# Altium integrated library Altium_WE-LHMI_rev25a.IntLib: 193 symbols (part 1 of 4)
Pins are listed as number, name and electrical type; pins without a type are passive.

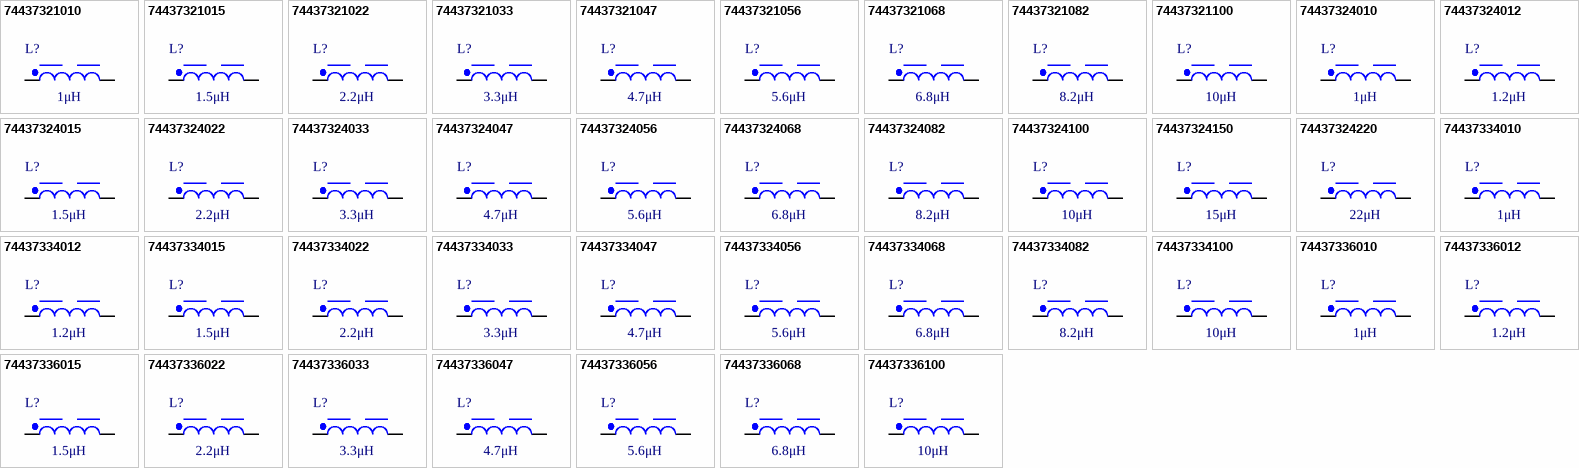
[diagram p0: symbols 74437321010 to 74437336100]

## 74437321010
designator L?, comment 1μH
WE-LHMI SMT Power Inductor, size 4012, 1μH, 4.5A, 47mΩ; Manufacturer Part Number: 74437321010; Manufacturer: Wurth Elektronik; Case/Size Code: 4012; Saturation Current @ 10%: 5.65A; Saturation Current @ 30%: 10A; Self Resonant Frequency: 90MHz; Category: Power Inductors; Match Code: WE-LHMI; ComponentLink1Description: Website Link; ComponentLink1URL: https://www.we-online.com/redexpert/article/74437321010?ad; ComponentLink2Description: Datasheet Link; ComponentLink2URL: https://www.we-online.com/redexpert/spec/74437321010?ad; Mount: Surface Mount; Min Operating Temperature: -40°C; Max Operating Temperature: 125°C; Packaging: Tape and Reel; Length: 4.45mm; Width: 4.06mm; Height: 1mm; DC Resistance Max: 47mΩ; Inductance: 1μH; Performance Rated Current: 4.5A
footprint WE-LHMI_4012
simulation model 4012_74437321010_1u
pins: 1, 2

## 74437321015
designator L?, comment 1.5μH
WE-LHMI SMT Power Inductor, size 4012, 1.5μH, 3.9A, 63.3mΩ; Manufacturer Part Number: 74437321015; Manufacturer: Wurth Elektronik; Case/Size Code: 4012; Saturation Current @ 10%: 2.7A; Saturation Current @ 30%: 5.1A; Self Resonant Frequency: 60MHz; Category: Power Inductors; Match Code: WE-LHMI; ComponentLink1Description: Website Link; ComponentLink1URL: https://www.we-online.com/redexpert/article/74437321015?ad; ComponentLink2Description: Datasheet Link; ComponentLink2URL: https://www.we-online.com/redexpert/spec/74437321015?ad; Mount: Surface Mount; Min Operating Temperature: -40°C; Max Operating Temperature: 125°C; Packaging: Tape and Reel; Length: 4.45mm; Width: 4.06mm; Height: 1mm; DC Resistance Max: 63.3mΩ; Inductance: 1.5μH; Performance Rated Current: 3.9A
footprint WE-LHMI_4012
simulation model 4012_74437321015_1.5u
pins: 1, 2

## 74437321022
designator L?, comment 2.2μH
WE-LHMI SMT Power Inductor, size 4012, 2.2μH, 3.5A, 80mΩ; Manufacturer Part Number: 74437321022; Manufacturer: Wurth Elektronik; Case/Size Code: 4012; Saturation Current @ 10%: 3.2A; Saturation Current @ 30%: 6.2A; Self Resonant Frequency: 55MHz; Category: Power Inductors; Match Code: WE-LHMI; ComponentLink1Description: Website Link; ComponentLink1URL: https://www.we-online.com/redexpert/article/74437321022?ad; ComponentLink2Description: Datasheet Link; ComponentLink2URL: https://www.we-online.com/redexpert/spec/74437321022?ad; Mount: Surface Mount; Min Operating Temperature: -40°C; Max Operating Temperature: 125°C; Packaging: Tape and Reel; Length: 4.45mm; Width: 4.06mm; Height: 1mm; DC Resistance Max: 80mΩ; Inductance: 2.2μH; Performance Rated Current: 3.5A
footprint WE-LHMI_4012
simulation model 4012_74437321022_2.2u
pins: 1, 2

## 74437321033
designator L?, comment 3.3μH
WE-LHMI SMT Power Inductor, size 4012, 3.3μH, 3.15A, 97mΩ; Manufacturer Part Number: 74437321033; Manufacturer: Wurth Elektronik; Case/Size Code: 4012; Saturation Current @ 10%: 2.6A; Saturation Current @ 30%: 4.8A; Self Resonant Frequency: 40MHz; Category: Power Inductors; Match Code: WE-LHMI; ComponentLink1Description: Website Link; ComponentLink1URL: https://www.we-online.com/redexpert/article/74437321033?ad; ComponentLink2Description: Datasheet Link; ComponentLink2URL: https://www.we-online.com/redexpert/spec/74437321033?ad; Mount: Surface Mount; Min Operating Temperature: -40°C; Max Operating Temperature: 125°C; Packaging: Tape and Reel; Length: 4.45mm; Width: 4.06mm; Height: 1mm; DC Resistance Max: 97mΩ; Inductance: 3.3μH; Performance Rated Current: 3.15A
footprint WE-LHMI_4012
simulation model 4012_74437321033_3.3u
pins: 1, 2

## 74437321047
designator L?, comment 4.7μH
WE-LHMI SMT Power Inductor, size 4012, 4.7μH, 2.55A, 145mΩ; Manufacturer Part Number: 74437321047; Manufacturer: Wurth Elektronik; Case/Size Code: 4012; Saturation Current @ 10%: 2.1A; Saturation Current @ 30%: 4.1A; Self Resonant Frequency: 34MHz; Category: Power Inductors; Match Code: WE-LHMI; ComponentLink1Description: Website Link; ComponentLink1URL: https://www.we-online.com/redexpert/article/74437321047?ad; ComponentLink2Description: Datasheet Link; ComponentLink2URL: https://www.we-online.com/redexpert/spec/74437321047?ad; Mount: Surface Mount; Min Operating Temperature: -40°C; Max Operating Temperature: 125°C; Packaging: Tape and Reel; Length: 4.45mm; Width: 4.06mm; Height: 1mm; DC Resistance Max: 145mΩ; Inductance: 4.7μH; Performance Rated Current: 2.55A
footprint WE-LHMI_4012
simulation model 4012_74437321047_4.7u
pins: 1, 2

## 74437321056
designator L?, comment 5.6μH
WE-LHMI SMT Power Inductor, size 4012, 5.6μH, 2.15A, 208mΩ; Manufacturer Part Number: 74437321056; Manufacturer: Wurth Elektronik; Case/Size Code: 4012; Saturation Current @ 10%: 1.95A; Saturation Current @ 30%: 3.65A; Self Resonant Frequency: 28MHz; Category: Power Inductors; Match Code: WE-LHMI; ComponentLink1Description: Website Link; ComponentLink1URL: https://www.we-online.com/redexpert/article/74437321056?ad; ComponentLink2Description: Datasheet Link; ComponentLink2URL: https://www.we-online.com/redexpert/spec/74437321056?ad; Mount: Surface Mount; Min Operating Temperature: -40°C; Max Operating Temperature: 125°C; Packaging: Tape and Reel; Length: 4.45mm; Width: 4.06mm; Height: 1mm; DC Resistance Max: 208mΩ; Inductance: 5.6μH; Performance Rated Current: 2.15A
footprint WE-LHMI_4012
simulation model 4012_74437321056_5.6u
pins: 1, 2

## 74437321068
designator L?, comment 6.8μH
WE-LHMI SMT Power Inductor, size 4012, 6.8μH, 1.65A, 360mΩ; Manufacturer Part Number: 74437321068; Manufacturer: Wurth Elektronik; Case/Size Code: 4012; Saturation Current @ 30%: 3.05A; Self Resonant Frequency: 25MHz; Category: Power Inductors; Match Code: WE-LHMI; ComponentLink1Description: Website Link; ComponentLink1URL: https://www.we-online.com/redexpert/article/74437321068?ad; ComponentLink2Description: Datasheet Link; ComponentLink2URL: https://www.we-online.com/redexpert/spec/74437321068?ad; Mount: Surface Mount; Min Operating Temperature: -40°C; Max Operating Temperature: 125°C; Packaging: Tape and Reel; Length: 4.45mm; Width: 4.06mm; Height: 1mm; DC Resistance Max: 360mΩ; Inductance: 6.8μH; Performance Rated Current: 1.65A; Saturation Current @ 10%: 1.65A
footprint WE-LHMI_4012
simulation model 4012_74437321068_6.8u
pins: 1, 2

## 74437321082
designator L?, comment 8.2μH
WE-LHMI SMT Power Inductor, size 4012, 8.2μH, 1.6A, 376mΩ; Manufacturer Part Number: 74437321082; Manufacturer: Wurth Elektronik; Case/Size Code: 4012; Saturation Current @ 10%: 1.65A; Saturation Current @ 30%: 2.85A; Self Resonant Frequency: 24MHz; Category: Power Inductors; Match Code: WE-LHMI; ComponentLink1Description: Website Link; ComponentLink1URL: https://www.we-online.com/redexpert/article/74437321082?ad; ComponentLink2Description: Datasheet Link; ComponentLink2URL: https://www.we-online.com/redexpert/spec/74437321082?ad; Mount: Surface Mount; Min Operating Temperature: -40°C; Max Operating Temperature: 125°C; Packaging: Tape and Reel; Length: 4.45mm; Width: 4.06mm; Height: 1mm; DC Resistance Max: 376mΩ; Inductance: 8.2μH; Performance Rated Current: 1.6A
footprint WE-LHMI_4012
simulation model 4012_74437321082_8.2u
pins: 1, 2

## 74437321100
designator L?, comment 10μH
WE-LHMI SMT Power Inductor, size 4012, 10μH, 1.4A, 463mΩ; Manufacturer Part Number: 74437321100; Manufacturer: Wurth Elektronik; Case/Size Code: 4012; Saturation Current @ 10%: 1.5A; Saturation Current @ 30%: 2.65A; Self Resonant Frequency: 23MHz; Category: Power Inductors; Match Code: WE-LHMI; ComponentLink1Description: Website Link; ComponentLink1URL: https://www.we-online.com/redexpert/article/74437321100?ad; ComponentLink2Description: Datasheet Link; ComponentLink2URL: https://www.we-online.com/redexpert/spec/74437321100?ad; Mount: Surface Mount; Min Operating Temperature: -40°C; Max Operating Temperature: 125°C; Packaging: Tape and Reel; Length: 4.45mm; Width: 4.06mm; Height: 1mm; DC Resistance Max: 463mΩ; Inductance: 10μH; Performance Rated Current: 1.4A
footprint WE-LHMI_4012
simulation model 4012_74437321100_10u
pins: 1, 2

## 74437324010
designator L?, comment 1μH
WE-LHMI SMT Power Inductor, size 4020, 1μH, 6.2A, 27mΩ; Manufacturer Part Number: 74437324010; Manufacturer: Wurth Elektronik; Case/Size Code: 4020; Saturation Current @ 10%: 6.5A; Saturation Current @ 30%: 12.5A; Self Resonant Frequency: 89MHz; Category: Power Inductors; Match Code: WE-LHMI; ComponentLink1Description: Website Link; ComponentLink1URL: https://www.we-online.com/redexpert/article/74437324010?ad; ComponentLink2Description: Datasheet Link; ComponentLink2URL: https://www.we-online.com/redexpert/spec/74437324010?ad; Mount: Surface Mount; Min Operating Temperature: -40°C; Max Operating Temperature: 125°C; Packaging: Tape and Reel; Length: 4.45mm; Width: 4.06mm; Height: 1.8mm; DC Resistance Max: 27mΩ; Inductance: 1μH; Performance Rated Current: 6.2A
footprint WE-LHMI_4020
simulation model 4020_74437324010_1u
pins: 1, 2

## 74437324012
designator L?, comment 1.2μH
WE-LHMI SMT Power Inductor, size 4020, 1.2μH, 5.85A, 30mΩ; Manufacturer Part Number: 74437324012; Manufacturer: Wurth Elektronik; Case/Size Code: 4020; Saturation Current @ 10%: 6.3A; Saturation Current @ 30%: 11.6A; Self Resonant Frequency: 71MHz; Category: Power Inductors; Match Code: WE-LHMI; ComponentLink1Description: Website Link; ComponentLink1URL: https://www.we-online.com/redexpert/article/74437324012?ad; ComponentLink2Description: Datasheet Link; ComponentLink2URL: https://www.we-online.com/redexpert/spec/74437324012?ad; Mount: Surface Mount; Min Operating Temperature: -40°C; Max Operating Temperature: 125°C; Packaging: Tape and Reel; Length: 4.45mm; Width: 4.06mm; Height: 1.8mm; DC Resistance Max: 30mΩ; Inductance: 1.2μH; Performance Rated Current: 5.85A
footprint WE-LHMI_4020
simulation model 4020_74437324012_1.2u
pins: 1, 2

## 74437324015
designator L?, comment 1.5μH
WE-LHMI SMT Power Inductor, size 4020, 1.5μH, 4.9A, 42mΩ; Manufacturer Part Number: 74437324015; Manufacturer: Wurth Elektronik; Case/Size Code: 4020; Saturation Current @ 10%: 5.65A; Saturation Current @ 30%: 10.1A; Self Resonant Frequency: 64MHz; Category: Power Inductors; Match Code: WE-LHMI; ComponentLink1Description: Website Link; ComponentLink1URL: https://www.we-online.com/redexpert/article/74437324015?ad; ComponentLink2Description: Datasheet Link; ComponentLink2URL: https://www.we-online.com/redexpert/spec/74437324015?ad; Mount: Surface Mount; Min Operating Temperature: -40°C; Max Operating Temperature: 125°C; Packaging: Tape and Reel; Length: 4.45mm; Width: 4.06mm; Height: 1.8mm; DC Resistance Max: 42mΩ; Inductance: 1.5μH; Performance Rated Current: 4.9A
footprint WE-LHMI_4020
simulation model 4020_74437324015_1.5u
pins: 1, 2

## 74437324022
designator L?, comment 2.2μH
WE-LHMI SMT Power Inductor, size 4020, 2.2μH, 4.05A, 61mΩ; Manufacturer Part Number: 74437324022; Manufacturer: Wurth Elektronik; Case/Size Code: 4020; Saturation Current @ 10%: 4.45A; Saturation Current @ 30%: 8.4A; Self Resonant Frequency: 49MHz; Category: Power Inductors; Match Code: WE-LHMI; ComponentLink1Description: Website Link; ComponentLink1URL: https://www.we-online.com/redexpert/article/74437324022?ad; ComponentLink2Description: Datasheet Link; ComponentLink2URL: https://www.we-online.com/redexpert/spec/74437324022?ad; Mount: Surface Mount; Min Operating Temperature: -40°C; Max Operating Temperature: 125°C; Packaging: Tape and Reel; Length: 4.45mm; Width: 4.06mm; Height: 1.8mm; DC Resistance Max: 61mΩ; Inductance: 2.2μH; Performance Rated Current: 4.05A
footprint WE-LHMI_4020
simulation model 4020_74437324022_2.2u
pins: 1, 2

## 74437324033
designator L?, comment 3.3μH
WE-LHMI SMT Power Inductor, size 4020, 3.3μH, 3.5A, 76mΩ; Manufacturer Part Number: 74437324033; Manufacturer: Wurth Elektronik; Case/Size Code: 4020; Saturation Current @ 10%: 2.75A; Saturation Current @ 30%: 5.45A; Self Resonant Frequency: 40MHz; Category: Power Inductors; Match Code: WE-LHMI; ComponentLink1Description: Website Link; ComponentLink1URL: https://www.we-online.com/redexpert/article/74437324033?ad; ComponentLink2Description: Datasheet Link; ComponentLink2URL: https://www.we-online.com/redexpert/spec/74437324033?ad; Mount: Surface Mount; Min Operating Temperature: -40°C; Max Operating Temperature: 125°C; Packaging: Tape and Reel; Length: 4.45mm; Width: 4.06mm; Height: 1.8mm; DC Resistance Max: 76mΩ; Inductance: 3.3μH; Performance Rated Current: 3.5A
footprint WE-LHMI_4020
simulation model 4020_74437324033_3.3u
pins: 1, 2

## 74437324047
designator L?, comment 4.7μH
WE-LHMI SMT Power Inductor, size 4020, 4.7μH, 2.95A, 105mΩ; Manufacturer Part Number: 74437324047; Manufacturer: Wurth Elektronik; Case/Size Code: 4020; Saturation Current @ 10%: 2.45A; Saturation Current @ 30%: 5.4A; Self Resonant Frequency: 31MHz; Category: Power Inductors; Match Code: WE-LHMI; ComponentLink1Description: Website Link; ComponentLink1URL: https://www.we-online.com/redexpert/article/74437324047?ad; ComponentLink2Description: Datasheet Link; ComponentLink2URL: https://www.we-online.com/redexpert/spec/74437324047?ad; Mount: Surface Mount; Min Operating Temperature: -40°C; Max Operating Temperature: 125°C; Packaging: Tape and Reel; Length: 4.45mm; Width: 4.06mm; Height: 1.8mm; DC Resistance Max: 105mΩ; Inductance: 4.7μH; Performance Rated Current: 2.95A
footprint WE-LHMI_4020
simulation model 4020_74437324047_4.7u
pins: 1, 2

## 74437324056
designator L?, comment 5.6μH
WE-LHMI SMT Power Inductor, size 4020, 5.6μH, 2.6A, 125mΩ; Manufacturer Part Number: 74437324056; Manufacturer: Wurth Elektronik; Case/Size Code: 4020; Saturation Current @ 10%: 2.4A; Saturation Current @ 30%: 5.1A; Self Resonant Frequency: 30MHz; Category: Power Inductors; Match Code: WE-LHMI; ComponentLink1Description: Website Link; ComponentLink1URL: https://www.we-online.com/redexpert/article/74437324056?ad; ComponentLink2Description: Datasheet Link; ComponentLink2URL: https://www.we-online.com/redexpert/spec/74437324056?ad; Mount: Surface Mount; Min Operating Temperature: -40°C; Max Operating Temperature: 125°C; Packaging: Tape and Reel; Length: 4.45mm; Width: 4.06mm; Height: 1.8mm; DC Resistance Max: 125mΩ; Inductance: 5.6μH; Performance Rated Current: 2.6A
footprint WE-LHMI_4020
simulation model 4020_74437324056_5.6u
pins: 1, 2

## 74437324068
designator L?, comment 6.8μH
WE-LHMI SMT Power Inductor, size 4020, 6.8μH, 2.35A, 172mΩ; Manufacturer Part Number: 74437324068; Manufacturer: Wurth Elektronik; Case/Size Code: 4020; Saturation Current @ 10%: 2.4A; Saturation Current @ 30%: 4.75A; Self Resonant Frequency: 29MHz; Category: Power Inductors; Match Code: WE-LHMI; ComponentLink1Description: Website Link; ComponentLink1URL: https://www.we-online.com/redexpert/article/74437324068?ad; ComponentLink2Description: Datasheet Link; ComponentLink2URL: https://www.we-online.com/redexpert/spec/74437324068?ad; Mount: Surface Mount; Min Operating Temperature: -40°C; Max Operating Temperature: 125°C; Packaging: Tape and Reel; Length: 4.45mm; Width: 4.06mm; Height: 1.8mm; DC Resistance Max: 172mΩ; Inductance: 6.8μH; Performance Rated Current: 2.35A
footprint WE-LHMI_4020
simulation model 4020_74437324068_6.8u
pins: 1, 2

## 74437324082
designator L?, comment 8.2μH
WE-LHMI SMT Power Inductor, size 4020, 8.2μH, 2.3A, 180mΩ; Manufacturer Part Number: 74437324082; Manufacturer: Wurth Elektronik; Case/Size Code: 4020; Saturation Current @ 10%: 1.8A; Saturation Current @ 30%: 3.8A; Self Resonant Frequency: 22MHz; Category: Power Inductors; Match Code: WE-LHMI; ComponentLink1Description: Website Link; ComponentLink1URL: https://www.we-online.com/redexpert/article/74437324082?ad; ComponentLink2Description: Datasheet Link; ComponentLink2URL: https://www.we-online.com/redexpert/spec/74437324082?ad; Mount: Surface Mount; Min Operating Temperature: -40°C; Max Operating Temperature: 125°C; Packaging: Tape and Reel; Length: 4.45mm; Width: 4.06mm; Height: 1.8mm; DC Resistance Max: 180mΩ; Inductance: 8.2μH; Performance Rated Current: 2.3A
footprint WE-LHMI_4020
simulation model 4020_74437324082_8.2u
pins: 1, 2

## 74437324100
designator L?, comment 10μH
WE-LHMI SMT Power Inductor, size 4020, 10μH, 1.95A, 243mΩ; Manufacturer Part Number: 74437324100; Manufacturer: Wurth Elektronik; Case/Size Code: 4020; Saturation Current @ 10%: 1.5A; Saturation Current @ 30%: 3.15A; Self Resonant Frequency: 23MHz; Category: Power Inductors; Match Code: WE-LHMI; ComponentLink1Description: Website Link; ComponentLink1URL: https://www.we-online.com/redexpert/article/74437324100?ad; ComponentLink2Description: Datasheet Link; ComponentLink2URL: https://www.we-online.com/redexpert/spec/74437324100?ad; Mount: Surface Mount; Min Operating Temperature: -40°C; Max Operating Temperature: 125°C; Packaging: Tape and Reel; Length: 4.45mm; Width: 4.06mm; Height: 1.8mm; DC Resistance Max: 243mΩ; Inductance: 10μH; Performance Rated Current: 1.95A
footprint WE-LHMI_4020
simulation model 4020_74437324100_10u
pins: 1, 2

## 74437324150
designator L?, comment 15μH
WE-LHMI SMT Power Inductor, size 4020, 15μH, 1.6A, 374mΩ; Manufacturer Part Number: 74437324150; Manufacturer: Wurth Elektronik; Case/Size Code: 4020; Saturation Current @ 10%: 1.35A; Saturation Current @ 30%: 2.75A; Self Resonant Frequency: 17MHz; Category: Power Inductors; Match Code: WE-LHMI; ComponentLink1Description: Website Link; ComponentLink1URL: https://www.we-online.com/redexpert/article/74437324150?ad; ComponentLink2Description: Datasheet Link; ComponentLink2URL: https://www.we-online.com/redexpert/spec/74437324150?ad; Mount: Surface Mount; Min Operating Temperature: -40°C; Max Operating Temperature: 125°C; Packaging: Tape and Reel; Length: 4.45mm; Width: 4.06mm; Height: 1.8mm; DC Resistance Max: 374mΩ; Inductance: 15μH; Performance Rated Current: 1.6A
footprint WE-LHMI_4020
simulation model 4020_74437324150_15u
pins: 1, 2

## 74437324220
designator L?, comment 22μH
WE-LHMI SMT Power Inductor, size 4020, 22μH, 1.3A, 500mΩ; Manufacturer Part Number: 74437324220; Manufacturer: Wurth Elektronik; Case/Size Code: 4020; Saturation Current @ 10%: 1.45A; Saturation Current @ 30%: 2.35A; Self Resonant Frequency: 14MHz; Category: Power Inductors; Match Code: WE-LHMI; ComponentLink1Description: Website Link; ComponentLink1URL: https://www.we-online.com/redexpert/article/74437324220?ad; ComponentLink2Description: Datasheet Link; ComponentLink2URL: https://www.we-online.com/redexpert/spec/74437324220?ad; Mount: Surface Mount; Min Operating Temperature: -40°C; Max Operating Temperature: 125°C; Packaging: Tape and Reel; Length: 4.45mm; Width: 4.06mm; Height: 1.8mm; DC Resistance Max: 500mΩ; Inductance: 22μH; Performance Rated Current: 1.3A
footprint WE-LHMI_4020
simulation model 4020_74437324220_22u
pins: 1, 2

## 74437334010
designator L?, comment 1μH
WE-LHMI SMT Power Inductor, size 5020, 1μH, 7.4A, 20mΩ; Manufacturer Part Number: 74437334010; Manufacturer: Wurth Elektronik; Case/Size Code: 5020; Saturation Current @ 10%: 9.2A; Saturation Current @ 30%: 17.7A; Self Resonant Frequency: 65MHz; Category: Power Inductors; Match Code: WE-LHMI; ComponentLink1Description: Website Link; ComponentLink1URL: https://www.we-online.com/redexpert/article/74437334010?ad; ComponentLink2Description: Datasheet Link; ComponentLink2URL: https://www.we-online.com/redexpert/spec/74437334010?ad; Mount: Surface Mount; Min Operating Temperature: -40°C; Max Operating Temperature: 125°C; Packaging: Tape and Reel; Length: 5.7mm; Width: 5.2mm; Height: 1.8mm; DC Resistance Max: 20mΩ; Inductance: 1μH; Performance Rated Current: 7.4A
footprint WE-LHMI_5020
simulation model 5020_74437334010_1u
pins: 1, 2

## 74437334012
designator L?, comment 1.2μH
WE-LHMI SMT Power Inductor, size 5020, 1.2μH, 6.4A, 28mΩ; Manufacturer Part Number: 74437334012; Manufacturer: Wurth Elektronik; Case/Size Code: 5020; Saturation Current @ 10%: 7.5A; Saturation Current @ 30%: 14A; Self Resonant Frequency: 60MHz; Category: Power Inductors; Match Code: WE-LHMI; ComponentLink1Description: Website Link; ComponentLink1URL: https://www.we-online.com/redexpert/article/74437334012?ad; ComponentLink2Description: Datasheet Link; ComponentLink2URL: https://www.we-online.com/redexpert/spec/74437334012?ad; Mount: Surface Mount; Min Operating Temperature: -40°C; Max Operating Temperature: 125°C; Packaging: Tape and Reel; Length: 5.7mm; Width: 5.2mm; Height: 1.8mm; DC Resistance Max: 28mΩ; Inductance: 1.2μH; Performance Rated Current: 6.4A
footprint WE-LHMI_5020
simulation model 5020_74437334012_1.2u
pins: 1, 2

## 74437334015
designator L?, comment 1.5μH
WE-LHMI SMT Power Inductor, size 5020, 1.5μH, 6A, 30.5mΩ; Manufacturer Part Number: 74437334015; Manufacturer: Wurth Elektronik; Case/Size Code: 5020; Saturation Current @ 10%: 6.6A; Saturation Current @ 30%: 13.6A; Self Resonant Frequency: 50MHz; Category: Power Inductors; Match Code: WE-LHMI; ComponentLink1Description: Website Link; ComponentLink1URL: https://www.we-online.com/redexpert/article/74437334015?ad; ComponentLink2Description: Datasheet Link; ComponentLink2URL: https://www.we-online.com/redexpert/spec/74437334015?ad; Mount: Surface Mount; Min Operating Temperature: -40°C; Max Operating Temperature: 125°C; Packaging: Tape and Reel; Length: 5.7mm; Width: 5.2mm; Height: 1.8mm; DC Resistance Max: 30.5mΩ; Inductance: 1.5μH; Performance Rated Current: 6A
footprint WE-LHMI_5020
simulation model 5020_74437334015_1.5u
pins: 1, 2

## 74437334022
designator L?, comment 2.2μH
WE-LHMI SMT Power Inductor, size 5020, 2.2μH, 4.75A, 50mΩ; Manufacturer Part Number: 74437334022; Manufacturer: Wurth Elektronik; Case/Size Code: 5020; Saturation Current @ 10%: 6.4A; Saturation Current @ 30%: 11.9A; Self Resonant Frequency: 46MHz; Category: Power Inductors; Match Code: WE-LHMI; ComponentLink1Description: Website Link; ComponentLink1URL: https://www.we-online.com/redexpert/article/74437334022?ad; ComponentLink2Description: Datasheet Link; ComponentLink2URL: https://www.we-online.com/redexpert/spec/74437334022?ad; Mount: Surface Mount; Min Operating Temperature: -40°C; Max Operating Temperature: 125°C; Packaging: Tape and Reel; Length: 5.7mm; Width: 5.2mm; Height: 1.8mm; DC Resistance Max: 50mΩ; Inductance: 2.2μH; Performance Rated Current: 4.75A
footprint WE-LHMI_5020
simulation model 5020_74437334022_2.2u
pins: 1, 2

## 74437334033
designator L?, comment 3.3μH
WE-LHMI SMT Power Inductor, size 5020, 3.3μH, 3.75A, 76mΩ; Manufacturer Part Number: 74437334033; Manufacturer: Wurth Elektronik; Case/Size Code: 5020; Saturation Current @ 10%: 5.25A; Saturation Current @ 30%: 9.6A; Self Resonant Frequency: 35MHz; Category: Power Inductors; Match Code: WE-LHMI; ComponentLink1Description: Website Link; ComponentLink1URL: https://www.we-online.com/redexpert/article/74437334033?ad; ComponentLink2Description: Datasheet Link; ComponentLink2URL: https://www.we-online.com/redexpert/spec/74437334033?ad; Mount: Surface Mount; Min Operating Temperature: -40°C; Max Operating Temperature: 125°C; Packaging: Tape and Reel; Length: 5.7mm; Width: 5.2mm; Height: 1.8mm; DC Resistance Max: 76mΩ; Inductance: 3.3μH; Performance Rated Current: 3.75A
footprint WE-LHMI_5020
simulation model 5020_74437334033_3.3u
pins: 1, 2

## 74437334047
designator L?, comment 4.7μH
WE-LHMI SMT Power Inductor, size 5020, 4.7μH, 3A, 116mΩ; Manufacturer Part Number: 74437334047; Manufacturer: Wurth Elektronik; Case/Size Code: 5020; Saturation Current @ 10%: 4.1A; Saturation Current @ 30%: 7.5A; Self Resonant Frequency: 27MHz; Category: Power Inductors; Match Code: WE-LHMI; ComponentLink1Description: Website Link; ComponentLink1URL: https://www.we-online.com/redexpert/article/74437334047?ad; ComponentLink2Description: Datasheet Link; ComponentLink2URL: https://www.we-online.com/redexpert/spec/74437334047?ad; Mount: Surface Mount; Min Operating Temperature: -40°C; Max Operating Temperature: 125°C; Packaging: Tape and Reel; Length: 5.7mm; Width: 5.2mm; Height: 1.8mm; DC Resistance Max: 116mΩ; Inductance: 4.7μH; Performance Rated Current: 3A
footprint WE-LHMI_5020
simulation model 5020_74437334047_4.7u
pins: 1, 2

## 74437334056
designator L?, comment 5.6μH
WE-LHMI SMT Power Inductor, size 5020, 5.6μH, 2.85A, 122mΩ; Manufacturer Part Number: 74437334056; Manufacturer: Wurth Elektronik; Case/Size Code: 5020; Saturation Current @ 10%: 3.7A; Saturation Current @ 30%: 7A; Self Resonant Frequency: 21MHz; Category: Power Inductors; Match Code: WE-LHMI; ComponentLink1Description: Website Link; ComponentLink1URL: https://www.we-online.com/redexpert/article/74437334056?ad; ComponentLink2Description: Datasheet Link; ComponentLink2URL: https://www.we-online.com/redexpert/spec/74437334056?ad; Mount: Surface Mount; Min Operating Temperature: -40°C; Max Operating Temperature: 125°C; Packaging: Tape and Reel; Length: 5.7mm; Width: 5.2mm; Height: 1.8mm; DC Resistance Max: 122mΩ; Inductance: 5.6μH; Performance Rated Current: 2.85A
footprint WE-LHMI_5020
simulation model 5020_74437334056_5.6u
pins: 1, 2

## 74437334068
designator L?, comment 6.8μH
WE-LHMI SMT Power Inductor, size 5020, 6.8μH, 2.65A, 150mΩ; Manufacturer Part Number: 74437334068; Manufacturer: Wurth Elektronik; Case/Size Code: 5020; Saturation Current @ 10%: 3.05A; Saturation Current @ 30%: 5.55A; Self Resonant Frequency: 20.5MHz; Category: Power Inductors; Match Code: WE-LHMI; ComponentLink1Description: Website Link; ComponentLink1URL: https://www.we-online.com/redexpert/article/74437334068?ad; ComponentLink2Description: Datasheet Link; ComponentLink2URL: https://www.we-online.com/redexpert/spec/74437334068?ad; Mount: Surface Mount; Min Operating Temperature: -40°C; Max Operating Temperature: 125°C; Packaging: Tape and Reel; Length: 5.7mm; Width: 5.2mm; Height: 1.8mm; DC Resistance Max: 150mΩ; Inductance: 6.8μH; Performance Rated Current: 2.65A
footprint WE-LHMI_5020
simulation model 5020_74437334068_6.8u
pins: 1, 2

## 74437334082
designator L?, comment 8.2μH
WE-LHMI SMT Power Inductor, size 5020, 8.2μH, 2.5A, 171mΩ; Manufacturer Part Number: 74437334082; Manufacturer: Wurth Elektronik; Case/Size Code: 5020; Saturation Current @ 10%: 3A; Saturation Current @ 30%: 5.65A; Self Resonant Frequency: 20MHz; Category: Power Inductors; Match Code: WE-LHMI; ComponentLink1Description: Website Link; ComponentLink1URL: https://www.we-online.com/redexpert/article/74437334082?ad; ComponentLink2Description: Datasheet Link; ComponentLink2URL: https://www.we-online.com/redexpert/spec/74437334082?ad; Mount: Surface Mount; Min Operating Temperature: -40°C; Max Operating Temperature: 125°C; Packaging: Tape and Reel; Length: 5.7mm; Width: 5.2mm; Height: 1.8mm; DC Resistance Max: 171mΩ; Inductance: 8.2μH; Performance Rated Current: 2.5A
footprint WE-LHMI_5020
simulation model 5020_74437334082_8.2u
pins: 1, 2

## 74437334100
designator L?, comment 10μH
WE-LHMI SMT Power Inductor, size 5020, 10μH, 2.25A, 199mΩ; Manufacturer Part Number: 74437334100; Manufacturer: Wurth Elektronik; Case/Size Code: 5020; Saturation Current @ 10%: 2.7A; Saturation Current @ 30%: 5.15A; Self Resonant Frequency: 16MHz; Category: Power Inductors; Match Code: WE-LHMI; ComponentLink1Description: Website Link; ComponentLink1URL: https://www.we-online.com/redexpert/article/74437334100?ad; ComponentLink2Description: Datasheet Link; ComponentLink2URL: https://www.we-online.com/redexpert/spec/74437334100?ad; Mount: Surface Mount; Min Operating Temperature: -40°C; Max Operating Temperature: 125°C; Packaging: Tape and Reel; Length: 5.7mm; Width: 5.2mm; Height: 1.8mm; DC Resistance Max: 199mΩ; Inductance: 10μH; Performance Rated Current: 2.25A
footprint WE-LHMI_5020
simulation model 5020_74437334100_10u
pins: 1, 2

## 74437336010
designator L?, comment 1μH
WE-LHMI SMT Power Inductor, size 5030, 1μH, 8.6A, 14mΩ; Manufacturer Part Number: 74437336010; Manufacturer: Wurth Elektronik; Case/Size Code: 5030; Saturation Current @ 10%: 7.4A; Saturation Current @ 30%: 14.2A; Self Resonant Frequency: 60MHz; Category: Power Inductors; Match Code: WE-LHMI; ComponentLink1Description: Website Link; ComponentLink1URL: https://www.we-online.com/redexpert/article/74437336010?ad; ComponentLink2Description: Datasheet Link; ComponentLink2URL: https://www.we-online.com/redexpert/spec/74437336010?ad; Mount: Surface Mount; Min Operating Temperature: -40°C; Max Operating Temperature: 125°C; Packaging: Tape and Reel; Length: 5.7mm; Width: 5.2mm; Height: 2.8mm; DC Resistance Max: 14mΩ; Inductance: 1μH; Performance Rated Current: 8.6A
footprint WE-LHMI_5030
simulation model 5030_74437336010_1u
pins: 1, 2

## 74437336012
designator L?, comment 1.2μH
WE-LHMI SMT Power Inductor, size 5030, 1.2μH, 8.3A, 16mΩ; Manufacturer Part Number: 74437336012; Manufacturer: Wurth Elektronik; Case/Size Code: 5030; Saturation Current @ 10%: 7.5A; Saturation Current @ 30%: 13.9A; Self Resonant Frequency: 50MHz; Category: Power Inductors; Match Code: WE-LHMI; ComponentLink1Description: Website Link; ComponentLink1URL: https://www.we-online.com/redexpert/article/74437336012?ad; ComponentLink2Description: Datasheet Link; ComponentLink2URL: https://www.we-online.com/redexpert/spec/74437336012?ad; Mount: Surface Mount; Min Operating Temperature: -40°C; Max Operating Temperature: 125°C; Packaging: Tape and Reel; Length: 5.7mm; Width: 5.2mm; Height: 2.8mm; DC Resistance Max: 16mΩ; Inductance: 1.2μH; Performance Rated Current: 8.3A
footprint WE-LHMI_5030
simulation model 5030_74437336012_1.2u
pins: 1, 2

## 74437336015
designator L?, comment 1.5μH
WE-LHMI SMT Power Inductor, size 5030, 1.5μH, 7.8A, 25mΩ; Manufacturer Part Number: 74437336015; Manufacturer: Wurth Elektronik; Case/Size Code: 5030; Saturation Current @ 10%: 7.7A; Saturation Current @ 30%: 14.2A; Self Resonant Frequency: 45MHz; Category: Power Inductors; Match Code: WE-LHMI; ComponentLink1Description: Website Link; ComponentLink1URL: https://www.we-online.com/redexpert/article/74437336015?ad; ComponentLink2Description: Datasheet Link; ComponentLink2URL: https://www.we-online.com/redexpert/spec/74437336015?ad; Mount: Surface Mount; Min Operating Temperature: -40°C; Max Operating Temperature: 125°C; Packaging: Tape and Reel; Length: 5.7mm; Width: 5.2mm; Height: 2.8mm; DC Resistance Max: 25mΩ; Inductance: 1.5μH; Performance Rated Current: 7.8A
footprint WE-LHMI_5030
simulation model 5030_74437336015_1.5u
pins: 1, 2

## 74437336022
designator L?, comment 2.2μH
WE-LHMI SMT Power Inductor, size 5030, 2.2μH, 6.2A, 35mΩ; Manufacturer Part Number: 74437336022; Manufacturer: Wurth Elektronik; Case/Size Code: 5030; Saturation Current @ 10%: 7A; Saturation Current @ 30%: 14A; Self Resonant Frequency: 42MHz; Category: Power Inductors; Match Code: WE-LHMI; ComponentLink1Description: Website Link; ComponentLink1URL: https://www.we-online.com/redexpert/article/74437336022?ad; ComponentLink2Description: Datasheet Link; ComponentLink2URL: https://www.we-online.com/redexpert/spec/74437336022?ad; Mount: Surface Mount; Min Operating Temperature: -40°C; Max Operating Temperature: 125°C; Packaging: Tape and Reel; Length: 5.7mm; Width: 5.2mm; Height: 2.8mm; DC Resistance Max: 35mΩ; Inductance: 2.2μH; Performance Rated Current: 6.2A
footprint WE-LHMI_5030
simulation model 5030_74437336022_2.2u
pins: 1, 2

## 74437336033
designator L?, comment 3.3μH
WE-LHMI SMT Power Inductor, size 5030, 3.3μH, 5.45A, 38mΩ; Manufacturer Part Number: 74437336033; Manufacturer: Wurth Elektronik; Case/Size Code: 5030; Saturation Current @ 10%: 5.55A; Saturation Current @ 30%: 10.9A; Self Resonant Frequency: 27MHz; Category: Power Inductors; Match Code: WE-LHMI; ComponentLink1Description: Website Link; ComponentLink1URL: https://www.we-online.com/redexpert/article/74437336033?ad; ComponentLink2Description: Datasheet Link; ComponentLink2URL: https://www.we-online.com/redexpert/spec/74437336033?ad; Mount: Surface Mount; Min Operating Temperature: -40°C; Max Operating Temperature: 125°C; Packaging: Tape and Reel; Length: 5.7mm; Width: 5.2mm; Height: 2.8mm; DC Resistance Max: 38mΩ; Inductance: 3.3μH; Performance Rated Current: 5.45A
footprint WE-LHMI_5030
simulation model 5030_74437336033_3.3u
pins: 1, 2

## 74437336047
designator L?, comment 4.7μH
WE-LHMI SMT Power Inductor, size 5030, 4.7μH, 4.35A, 53mΩ; Manufacturer Part Number: 74437336047; Manufacturer: Wurth Elektronik; Case/Size Code: 5030; Saturation Current @ 10%: 3.85A; Saturation Current @ 30%: 7.6A; Self Resonant Frequency: 25MHz; Category: Power Inductors; Match Code: WE-LHMI; ComponentLink1Description: Website Link; ComponentLink1URL: https://www.we-online.com/redexpert/article/74437336047?ad; ComponentLink2Description: Datasheet Link; ComponentLink2URL: https://www.we-online.com/redexpert/spec/74437336047?ad; Mount: Surface Mount; Min Operating Temperature: -40°C; Max Operating Temperature: 125°C; Packaging: Tape and Reel; Length: 5.7mm; Width: 5.2mm; Height: 2.8mm; DC Resistance Max: 53mΩ; Inductance: 4.7μH; Performance Rated Current: 4.35A
footprint WE-LHMI_5030
simulation model 5030_74437336047_4.7u
pins: 1, 2

## 74437336056
designator L?, comment 5.6μH
WE-LHMI SMT Power Inductor, size 5030, 5.6μH, 4.15A, 63mΩ; Manufacturer Part Number: 74437336056; Manufacturer: Wurth Elektronik; Case/Size Code: 5030; Saturation Current @ 10%: 3.85A; Saturation Current @ 30%: 7.7A; Self Resonant Frequency: 22MHz; Category: Power Inductors; Match Code: WE-LHMI; ComponentLink1Description: Website Link; ComponentLink1URL: https://www.we-online.com/redexpert/article/74437336056?ad; ComponentLink2Description: Datasheet Link; ComponentLink2URL: https://www.we-online.com/redexpert/spec/74437336056?ad; Mount: Surface Mount; Min Operating Temperature: -40°C; Max Operating Temperature: 125°C; Packaging: Tape and Reel; Length: 5.7mm; Width: 5.2mm; Height: 2.8mm; DC Resistance Max: 63mΩ; Inductance: 5.6μH; Performance Rated Current: 4.15A
footprint WE-LHMI_5030
simulation model 5030_74437336056_5.6u
pins: 1, 2

## 74437336068
designator L?, comment 6.8μH
WE-LHMI SMT Power Inductor, size 5030, 6.8μH, 3.75A, 76.2mΩ; Manufacturer Part Number: 74437336068; Manufacturer: Wurth Elektronik; Case/Size Code: 5030; Saturation Current @ 10%: 2.9A; Saturation Current @ 30%: 5.9A; Self Resonant Frequency: 20MHz; Category: Power Inductors; Match Code: WE-LHMI; ComponentLink1Description: Website Link; ComponentLink1URL: https://www.we-online.com/redexpert/article/74437336068?ad; ComponentLink2Description: Datasheet Link; ComponentLink2URL: https://www.we-online.com/redexpert/spec/74437336068?ad; Mount: Surface Mount; Min Operating Temperature: -40°C; Max Operating Temperature: 125°C; Packaging: Tape and Reel; Length: 5.7mm; Width: 5.2mm; Height: 2.8mm; DC Resistance Max: 76.2mΩ; Inductance: 6.8μH; Performance Rated Current: 3.75A
footprint WE-LHMI_5030
simulation model 5030_74437336068_6.8u
pins: 1, 2

## 74437336100
designator L?, comment 10μH
WE-LHMI SMT Power Inductor, size 5030, 10μH, 2.9A, 128mΩ; Manufacturer Part Number: 74437336100; Manufacturer: Wurth Elektronik; Case/Size Code: 5030; Saturation Current @ 10%: 2.8A; Saturation Current @ 30%: 5.35A; Self Resonant Frequency: 16MHz; Category: Power Inductors; Match Code: WE-LHMI; ComponentLink1Description: Website Link; ComponentLink1URL: https://www.we-online.com/redexpert/article/74437336100?ad; ComponentLink2Description: Datasheet Link; ComponentLink2URL: https://www.we-online.com/redexpert/spec/74437336100?ad; Mount: Surface Mount; Min Operating Temperature: -40°C; Max Operating Temperature: 125°C; Packaging: Tape and Reel; Length: 5.7mm; Width: 5.2mm; Height: 2.8mm; DC Resistance Max: 128mΩ; Inductance: 10μH; Performance Rated Current: 2.9A
footprint WE-LHMI_5030
simulation model 5030_74437336100_10u
pins: 1, 2

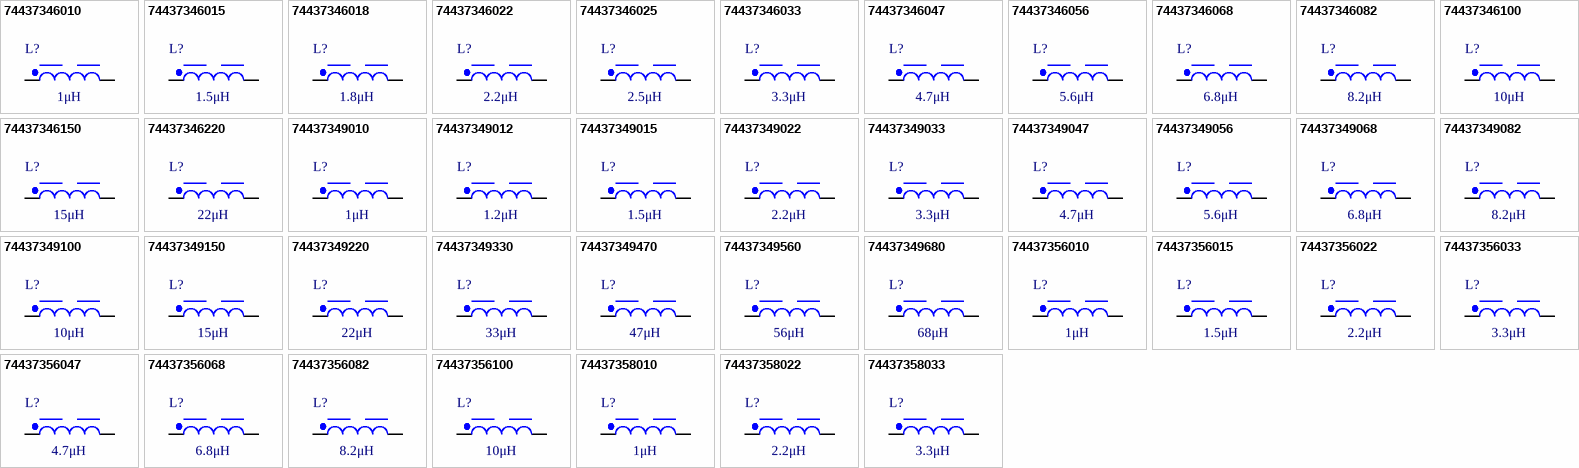
[diagram p1: symbols 74437346010 to 74437358033]

## 74437346010
designator L?, comment 1μH
WE-LHMI SMT Power Inductor, size 7030, 1μH, 11.4A, 10mΩ; Manufacturer Part Number: 74437346010; Manufacturer: Wurth Elektronik; Case/Size Code: 7030; Saturation Current @ 10%: 14.7A; Saturation Current @ 30%: 29A; Self Resonant Frequency: 54MHz; Category: Power Inductors; Match Code: WE-LHMI; ComponentLink1Description: Website Link; ComponentLink1URL: https://www.we-online.com/redexpert/article/74437346010?ad; ComponentLink2Description: Datasheet Link; ComponentLink2URL: https://www.we-online.com/redexpert/spec/74437346010?ad; Mount: Surface Mount; Min Operating Temperature: -40°C; Max Operating Temperature: 125°C; Packaging: Tape and Reel; Length: 7.3mm; Width: 6.6mm; Height: 2.8mm; DC Resistance Max: 10mΩ; Inductance: 1μH; Performance Rated Current: 11.4A
footprint WE-LHMI_7030
simulation model 7030_74437346010_1u
pins: 1, 2

## 74437346015
designator L?, comment 1.5μH
WE-LHMI SMT Power Inductor, size 7030, 1.5μH, 9.1A, 15mΩ; Manufacturer Part Number: 74437346015; Manufacturer: Wurth Elektronik; Case/Size Code: 7030; Saturation Current @ 10%: 11.2A; Saturation Current @ 30%: 27.6A; Self Resonant Frequency: 45MHz; Category: Power Inductors; Match Code: WE-LHMI; ComponentLink1Description: Website Link; ComponentLink1URL: https://www.we-online.com/redexpert/article/74437346015?ad; ComponentLink2Description: Datasheet Link; ComponentLink2URL: https://www.we-online.com/redexpert/spec/74437346015?ad; Mount: Surface Mount; Min Operating Temperature: -40°C; Max Operating Temperature: 125°C; Packaging: Tape and Reel; Length: 7.3mm; Width: 6.6mm; Height: 2.8mm; DC Resistance Max: 15mΩ; Inductance: 1.5μH; Performance Rated Current: 9.1A
footprint WE-LHMI_7030
simulation model 7030_74437346015_1.5u
pins: 1, 2

## 74437346018
designator L?, comment 1.8μH
WE-LHMI SMT Power Inductor, size 7030, 1.8μH, 8.8A, 17mΩ; Manufacturer Part Number: 74437346018; Manufacturer: Wurth Elektronik; Case/Size Code: 7030; Saturation Current @ 10%: 10.2A; Saturation Current @ 30%: 21.4A; Self Resonant Frequency: 35MHz; Category: Power Inductors; Match Code: WE-LHMI; ComponentLink1Description: Website Link; ComponentLink1URL: https://www.we-online.com/redexpert/article/74437346018?ad; ComponentLink2Description: Datasheet Link; ComponentLink2URL: https://www.we-online.com/redexpert/spec/74437346018?ad; Mount: Surface Mount; Min Operating Temperature: -40°C; Max Operating Temperature: 125°C; Packaging: Tape and Reel; Length: 7.3mm; Width: 6.6mm; Height: 2.8mm; DC Resistance Max: 17mΩ; Inductance: 1.8μH; Performance Rated Current: 8.8A
footprint WE-LHMI_7030
simulation model 7030_74437346018_1.8u
pins: 1, 2

## 74437346022
designator L?, comment 2.2μH
WE-LHMI SMT Power Inductor, size 7030, 2.2μH, 7.7A, 20mΩ; Manufacturer Part Number: 74437346022; Manufacturer: Wurth Elektronik; Case/Size Code: 7030; Saturation Current @ 10%: 10A; Saturation Current @ 30%: 19.1A; Self Resonant Frequency: 32MHz; Category: Power Inductors; Match Code: WE-LHMI; ComponentLink1Description: Website Link; ComponentLink1URL: https://www.we-online.com/redexpert/article/74437346022?ad; ComponentLink2Description: Datasheet Link; ComponentLink2URL: https://www.we-online.com/redexpert/spec/74437346022?ad; Mount: Surface Mount; Min Operating Temperature: -40°C; Max Operating Temperature: 125°C; Packaging: Tape and Reel; Length: 7.3mm; Width: 6.6mm; Height: 2.8mm; DC Resistance Max: 20mΩ; Inductance: 2.2μH; Performance Rated Current: 7.7A
footprint WE-LHMI_7030
simulation model 7030_74437346022_2.2u
pins: 1, 2

## 74437346025
designator L?, comment 2.5μH
WE-LHMI SMT Power Inductor, size 7030, 2.5μH, 7.3A, 22mΩ; Manufacturer Part Number: 74437346025; Manufacturer: Wurth Elektronik; Case/Size Code: 7030; Saturation Current @ 10%: 8.5A; Saturation Current @ 30%: 17.3A; Self Resonant Frequency: 30MHz; Category: Power Inductors; Match Code: WE-LHMI; ComponentLink1Description: Website Link; ComponentLink1URL: https://www.we-online.com/redexpert/article/74437346025?ad; ComponentLink2Description: Datasheet Link; ComponentLink2URL: https://www.we-online.com/redexpert/spec/74437346025?ad; Mount: Surface Mount; Min Operating Temperature: -40°C; Max Operating Temperature: 125°C; Packaging: Tape and Reel; Length: 7.3mm; Width: 6.6mm; Height: 2.8mm; DC Resistance Max: 22mΩ; Inductance: 2.5μH; Performance Rated Current: 7.3A
footprint WE-LHMI_7030
simulation model 7030_74437346025_2.5u
pins: 1, 2

## 74437346033
designator L?, comment 3.3μH
WE-LHMI SMT Power Inductor, size 7030, 3.3μH, 6.2A, 30mΩ; Manufacturer Part Number: 74437346033; Manufacturer: Wurth Elektronik; Case/Size Code: 7030; Saturation Current @ 10%: 8.4A; Saturation Current @ 30%: 16.6A; Self Resonant Frequency: 27MHz; Category: Power Inductors; Match Code: WE-LHMI; ComponentLink1Description: Website Link; ComponentLink1URL: https://www.we-online.com/redexpert/article/74437346033?ad; ComponentLink2Description: Datasheet Link; ComponentLink2URL: https://www.we-online.com/redexpert/spec/74437346033?ad; Mount: Surface Mount; Min Operating Temperature: -40°C; Max Operating Temperature: 125°C; Packaging: Tape and Reel; Length: 7.3mm; Width: 6.6mm; Height: 2.8mm; DC Resistance Max: 30mΩ; Inductance: 3.3μH; Performance Rated Current: 6.2A
footprint WE-LHMI_7030
simulation model 7030_74437346033_3.3u
pins: 1, 2

## 74437346047
designator L?, comment 4.7μH
WE-LHMI SMT Power Inductor, size 7030, 4.7μH, 5.35A, 40mΩ; Manufacturer Part Number: 74437346047; Manufacturer: Wurth Elektronik; Case/Size Code: 7030; Saturation Current @ 10%: 7.5A; Saturation Current @ 30%: 15.5A; Self Resonant Frequency: 22MHz; Category: Power Inductors; Match Code: WE-LHMI; ComponentLink1Description: Website Link; ComponentLink1URL: https://www.we-online.com/redexpert/article/74437346047?ad; ComponentLink2Description: Datasheet Link; ComponentLink2URL: https://www.we-online.com/redexpert/spec/74437346047?ad; Mount: Surface Mount; Min Operating Temperature: -40°C; Max Operating Temperature: 125°C; Packaging: Tape and Reel; Length: 7.3mm; Width: 6.6mm; Height: 2.8mm; DC Resistance Max: 40mΩ; Inductance: 4.7μH; Performance Rated Current: 5.35A
footprint WE-LHMI_7030
simulation model 7030_74437346047_4.7u
pins: 1, 2

## 74437346056
designator L?, comment 5.6μH
WE-LHMI SMT Power Inductor, size 7030, 5.6μH, 5A, 48mΩ; Manufacturer Part Number: 74437346056; Manufacturer: Wurth Elektronik; Case/Size Code: 7030; Saturation Current @ 10%: 5.9A; Saturation Current @ 30%: 12.1A; Self Resonant Frequency: 20MHz; Category: Power Inductors; Match Code: WE-LHMI; ComponentLink1Description: Website Link; ComponentLink1URL: https://www.we-online.com/redexpert/article/74437346056?ad; ComponentLink2Description: Datasheet Link; ComponentLink2URL: https://www.we-online.com/redexpert/spec/74437346056?ad; Mount: Surface Mount; Min Operating Temperature: -40°C; Max Operating Temperature: 125°C; Packaging: Tape and Reel; Length: 7.3mm; Width: 6.6mm; Height: 2.8mm; DC Resistance Max: 48mΩ; Inductance: 5.6μH; Performance Rated Current: 5A
footprint WE-LHMI_7030
simulation model 7030_74437346056_5.6u
pins: 1, 2

## 74437346068
designator L?, comment 6.8μH
WE-LHMI SMT Power Inductor, size 7030, 6.8μH, 4.45A, 60mΩ; Manufacturer Part Number: 74437346068; Manufacturer: Wurth Elektronik; Case/Size Code: 7030; Saturation Current @ 10%: 5.45A; Saturation Current @ 30%: 10.6A; Self Resonant Frequency: 18MHz; Category: Power Inductors; Match Code: WE-LHMI; ComponentLink1Description: Website Link; ComponentLink1URL: https://www.we-online.com/redexpert/article/74437346068?ad; ComponentLink2Description: Datasheet Link; ComponentLink2URL: https://www.we-online.com/redexpert/spec/74437346068?ad; Mount: Surface Mount; Min Operating Temperature: -40°C; Max Operating Temperature: 125°C; Packaging: Tape and Reel; Length: 7.3mm; Width: 6.6mm; Height: 2.8mm; DC Resistance Max: 60mΩ; Inductance: 6.8μH; Performance Rated Current: 4.45A
footprint WE-LHMI_7030
simulation model 7030_74437346068_6.8u
pins: 1, 2

## 74437346082
designator L?, comment 8.2μH
WE-LHMI SMT Power Inductor, size 7030, 8.2μH, 4.1A, 68mΩ; Manufacturer Part Number: 74437346082; Manufacturer: Wurth Elektronik; Case/Size Code: 7030; Saturation Current @ 10%: 5.1A; Saturation Current @ 30%: 10.1A; Self Resonant Frequency: 17MHz; Category: Power Inductors; Match Code: WE-LHMI; ComponentLink1Description: Website Link; ComponentLink1URL: https://www.we-online.com/redexpert/article/74437346082?ad; ComponentLink2Description: Datasheet Link; ComponentLink2URL: https://www.we-online.com/redexpert/spec/74437346082?ad; Mount: Surface Mount; Min Operating Temperature: -40°C; Max Operating Temperature: 125°C; Packaging: Tape and Reel; Length: 7.3mm; Width: 6.6mm; Height: 2.8mm; DC Resistance Max: 68mΩ; Inductance: 8.2μH; Performance Rated Current: 4.1A
footprint WE-LHMI_7030
simulation model 7030_74437346082_8.2u
pins: 1, 2

## 74437346100
designator L?, comment 10μH
WE-LHMI SMT Power Inductor, size 7030, 10μH, 3.75A, 85mΩ; Manufacturer Part Number: 74437346100; Manufacturer: Wurth Elektronik; Case/Size Code: 7030; Saturation Current @ 10%: 5A; Saturation Current @ 30%: 9.8A; Self Resonant Frequency: 15MHz; Category: Power Inductors; Match Code: WE-LHMI; ComponentLink1Description: Website Link; ComponentLink1URL: https://www.we-online.com/redexpert/article/74437346100?ad; ComponentLink2Description: Datasheet Link; ComponentLink2URL: https://www.we-online.com/redexpert/spec/74437346100?ad; Mount: Surface Mount; Min Operating Temperature: -40°C; Max Operating Temperature: 125°C; Packaging: Tape and Reel; Length: 7.3mm; Width: 6.6mm; Height: 2.8mm; DC Resistance Max: 85mΩ; Inductance: 10μH; Performance Rated Current: 3.75A
footprint WE-LHMI_7030
simulation model 7030_74437346100_10u
pins: 1, 2

## 74437346150
designator L?, comment 15μH
WE-LHMI SMT Power Inductor, size 7030, 15μH, 3.15A, 123mΩ; Manufacturer Part Number: 74437346150; Manufacturer: Wurth Elektronik; Case/Size Code: 7030; Saturation Current @ 10%: 3.2A; Saturation Current @ 30%: 6.1A; Self Resonant Frequency: 12MHz; Category: Power Inductors; Match Code: WE-LHMI; ComponentLink1Description: Website Link; ComponentLink1URL: https://www.we-online.com/redexpert/article/74437346150?ad; ComponentLink2Description: Datasheet Link; ComponentLink2URL: https://www.we-online.com/redexpert/spec/74437346150?ad; Mount: Surface Mount; Min Operating Temperature: -40°C; Max Operating Temperature: 125°C; Packaging: Tape and Reel; Length: 7.3mm; Width: 6.6mm; Height: 2.8mm; DC Resistance Max: 123mΩ; Inductance: 15μH; Performance Rated Current: 3.15A
footprint WE-LHMI_7030
simulation model 7030_74437346150_15u
pins: 1, 2

## 74437346220
designator L?, comment 22μH
WE-LHMI SMT Power Inductor, size 7030, 22μH, 2.5A, 190mΩ; Manufacturer Part Number: 74437346220; Manufacturer: Wurth Elektronik; Case/Size Code: 7030; Saturation Current @ 10%: 2.75A; Saturation Current @ 30%: 5.95A; Self Resonant Frequency: 10MHz; Category: Power Inductors; Match Code: WE-LHMI; ComponentLink1Description: Website Link; ComponentLink1URL: https://www.we-online.com/redexpert/article/74437346220?ad; ComponentLink2Description: Datasheet Link; ComponentLink2URL: https://www.we-online.com/redexpert/spec/74437346220?ad; Mount: Surface Mount; Min Operating Temperature: -40°C; Max Operating Temperature: 125°C; Packaging: Tape and Reel; Length: 7.3mm; Width: 6.6mm; Height: 2.8mm; DC Resistance Max: 190mΩ; Inductance: 22μH; Performance Rated Current: 2.5A
footprint WE-LHMI_7030
simulation model 7030_74437346220_22u
pins: 1, 2

## 74437349010
designator L?, comment 1μH
WE-LHMI SMT Power Inductor, size 7050, 1μH, 13.4A, 6.5mΩ; Manufacturer Part Number: 74437349010; Manufacturer: Wurth Elektronik; Case/Size Code: 7050; Saturation Current @ 10%: 13A; Saturation Current @ 30%: 25.8A; Self Resonant Frequency: 51MHz; Category: Power Inductors; Match Code: WE-LHMI; ComponentLink1Description: Website Link; ComponentLink1URL: https://www.we-online.com/redexpert/article/74437349010?ad; ComponentLink2Description: Datasheet Link; ComponentLink2URL: https://www.we-online.com/redexpert/spec/74437349010?ad; Mount: Surface Mount; Min Operating Temperature: -40°C; Max Operating Temperature: 125°C; Packaging: Tape and Reel; Length: 7.3mm; Width: 6.6mm; Height: 4.8mm; DC Resistance Max: 6.5mΩ; Inductance: 1μH; Performance Rated Current: 13.4A
footprint WE-LHMI_7050
simulation model 7050_74437349010_1u
pins: 1, 2

## 74437349012
designator L?, comment 1.2μH
WE-LHMI SMT Power Inductor, size 7050, 1.2μH, 12.4A, 7.5mΩ; Manufacturer Part Number: 74437349012; Manufacturer: Wurth Elektronik; Case/Size Code: 7050; Saturation Current @ 10%: 12A; Saturation Current @ 30%: 24A; Self Resonant Frequency: 45MHz; Category: Power Inductors; Match Code: WE-LHMI; ComponentLink1Description: Website Link; ComponentLink1URL: https://www.we-online.com/redexpert/article/74437349012?ad; ComponentLink2Description: Datasheet Link; ComponentLink2URL: https://www.we-online.com/redexpert/spec/74437349012?ad; Mount: Surface Mount; Min Operating Temperature: -40°C; Max Operating Temperature: 125°C; Packaging: Tape and Reel; Length: 7.3mm; Width: 6.6mm; Height: 4.8mm; DC Resistance Max: 7.5mΩ; Inductance: 1.2μH; Performance Rated Current: 12.4A
footprint WE-LHMI_7050
simulation model 7050_74437349012_1.2u
pins: 1, 2